# Altium footprint library QUTMS_SupersealPCB.PcbLib: 2 footprints
Each footprint in its own frame and in the unit in brackets; x right, y up, seen from the top. Pads: shape width x height; smd on the part's side, far side on the other; paste and mask are expansions set on the pad; w line width, h text height; cw(c..) or ccw(c..) is an arc to the next point about the centre after c.
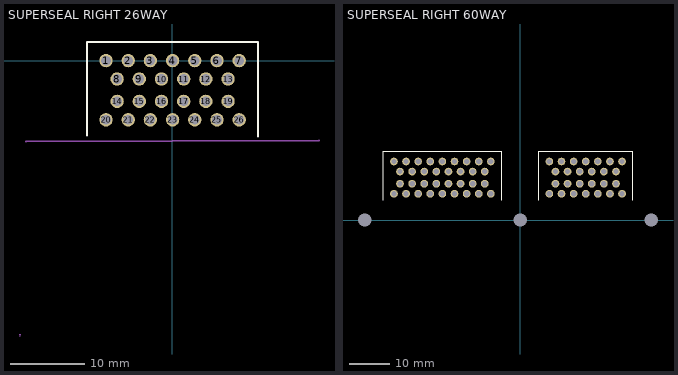
[diagram p0: the footprints below, top view; thin cyan lines are the x and y axes]

## SUPERSEAL RIGHT 26WAY [mil]
pads (26):
  round 71 hole 51: 1(-353.66,0.35) 2(-235.55,0.35) 3(-117.44,0.35) 4(0.67,0.35) 5(118.78,0.35) 6(236.89,0.35) 7(355,0.35) 8(-294.55,-97.76) 9(-176.44,-97.76) 10(-58.33,-97.76) 11(59.78,-97.76) 12(177.89,-97.76) 13(296,-97.76) 14(-294.55,-216.88) 15(-176.44,-216.88) 16(-58.33,-216.88) 17(59.78,-216.88) 18(177.89,-216.88) 19(296,-216.88) 20(-353.66,-315) 21(-235.55,-315) 22(-117.44,-315) 23(0.67,-315) 24(118.78,-315) 25(236.89,-315) 26(355,-315)
Top Overlay:
  lines w10: -455,-400 -455,100 455,100 455,-405
Mechanical 7:
  lines w1: -816.83,-1456.32 -806.83,-1456.32 -811.83,-1466.32 -816.83,-1456.32
  lines w10: -780,-430 780,-425
  text "\/ BOARD EDGE \/" at -234.92,-404 h30
3D body: height 10, standoff 0, extent 355,-315 365,-305
3D body "c-9-6437287-8-c-3d.stp": height 969.21, standoff -296.54, extent -777.56,-1338 777.56,99.01

## SUPERSEAL RIGHT 60WAY [mm]
pads (63):
  round 1.905 hole 1.321: A1(7.25,14.5) A2(10.25,14.5) A3(13.25,14.5) A4(16.25,14.5) A5(19.25,14.5) A6(22.25,14.5) A7(25.25,14.5) A8(8.75,12) A9(11.75,12) A10(14.75,12) A11(17.75,12) A12(20.75,12) A13(23.75,12) A14(8.75,9) A15(11.75,9) A16(14.75,9) A17(17.75,9) A18(20.75,9) A19(23.75,9) A20(7.25,6.5) A21(10.25,6.5) A22(13.25,6.5) A23(16.25,6.5) A24(19.25,6.5) A25(22.25,6.5) A26(25.25,6.5) B1(-31.25,14.5) B2(-28.25,14.5) B3(-25.25,14.5) B4(-22.25,14.5) B5(-19.25,14.5) B6(-16.25,14.5) B7(-13.25,14.5) B8(-10.25,14.5) B9(-7.25,14.5) B10(-29.75,12) B11(-26.75,12) B12(-23.75,12) B13(-20.75,12) B14(-17.75,12) B15(-14.75,12) B16(-11.75,12) B17(-8.75,12) B18(-29.75,9) B19(-26.75,9) B20(-23.75,9) B21(-20.75,9) B22(-17.75,9) B23(-14.75,9) B24(-11.75,9) B25(-8.75,9) B26(-31.25,6.5) B27(-28.25,6.5) B28(-25.25,6.5) B29(-22.25,6.5) B30(-19.25,6.5) B31(-16.25,6.5) B32(-13.25,6.5) B33(-10.25,6.5) B34(-7.25,6.5)
  rect 0x0 hole 3.3: N/C(-38.5,0) N/C(0,0) N/C(32.5,0)
Top Overlay:
  lines w0.254: -33.909,4.953 -33.909,17.018 -4.572,17.018 -4.572,4.953 ; 4.572,4.953 4.572,17.018 27.94,17.018 27.94,4.953
3D body "c-6473427-1-d-3d.stp": height 24.75, standoff -7.4, extent -42.048,-19.482 35.952,17.018